# EAGLE library part AMP_62GB-X-14-19 (library mbed-microcontroller)
Amphenol AMP 62GB 5067 14-19 N 19 PIN
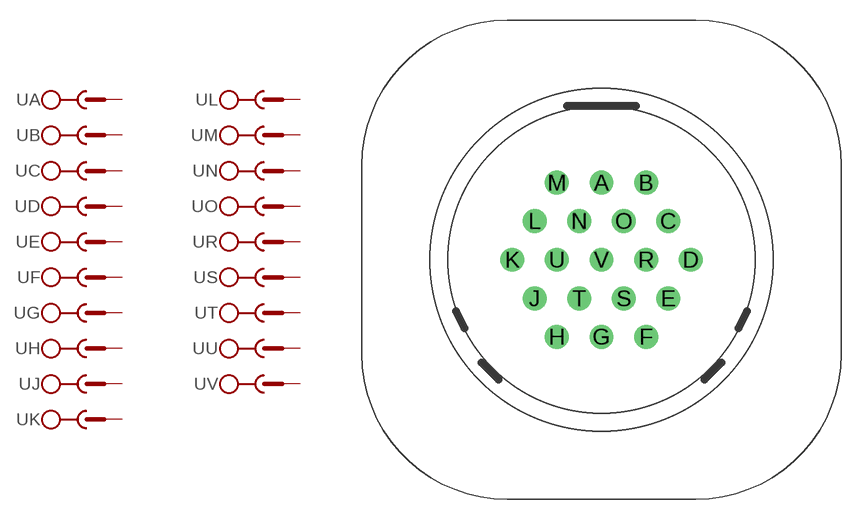
[diagram p10: symbol with the pads of 62GB-5067-14-19; footprint 62GB-5067-14-19]

Designator prefix -; gates A=PIN_1 B=PIN_1 C=PIN_1 D=PIN_1 E=PIN_1 F=PIN_1 G=PIN_1 H=PIN_1 J=PIN_1 K=PIN_1 L=PIN_1 M=PIN_1 N=PIN_1 O=PIN_1 R=PIN_1 S=PIN_1 T=PIN_1 U=PIN_1 V=PIN_1

## AMP_62GB-X-14-19  [62GB-5067-14-19]
A  A:1  pas
B  B:1  pas
C  C:1  pas
D  D:1  pas
E  E:1  pas
F  F:1  pas
G  G:1  pas
H  H:1  pas
J  J:1  pas
K  K:1  pas
L  L:1  pas
M  M:1  pas
N  N:1  pas
O  O:1  pas
R  R:1  pas
S  S:1  pas
T  T:1  pas
U  U:1  pas
V  V:1  pas

## Footprint 62GB-5067-14-19 (pad centres in mm)
drill 0.9 pad 1.778: A 0,5.715; B 3.302,5.715; C 4.953,2.87; D 6.604,0; E 4.953,-2.87; F 3.302,-5.715; G 0,-5.715; H -3.302,-5.715; J -4.953,-2.87; K -6.604,0; L -4.953,2.87; M -3.302,5.715; N -1.651,2.87; O 1.651,2.87; R 3.302,0; S 1.651,-2.87; T -1.651,-2.87; U -3.302,0; V 0,0